# Altium footprint library Capacitors.PcbLib: 9 footprints
Each footprint in its own frame and in the unit in brackets; x right, y up, seen from the top. Pads: shape width x height; smd on the part's side, far side on the other; paste and mask are expansions set on the pad; w line width, h text height; cw(c..) or ccw(c..) is an arc to the next point about the centre after c.
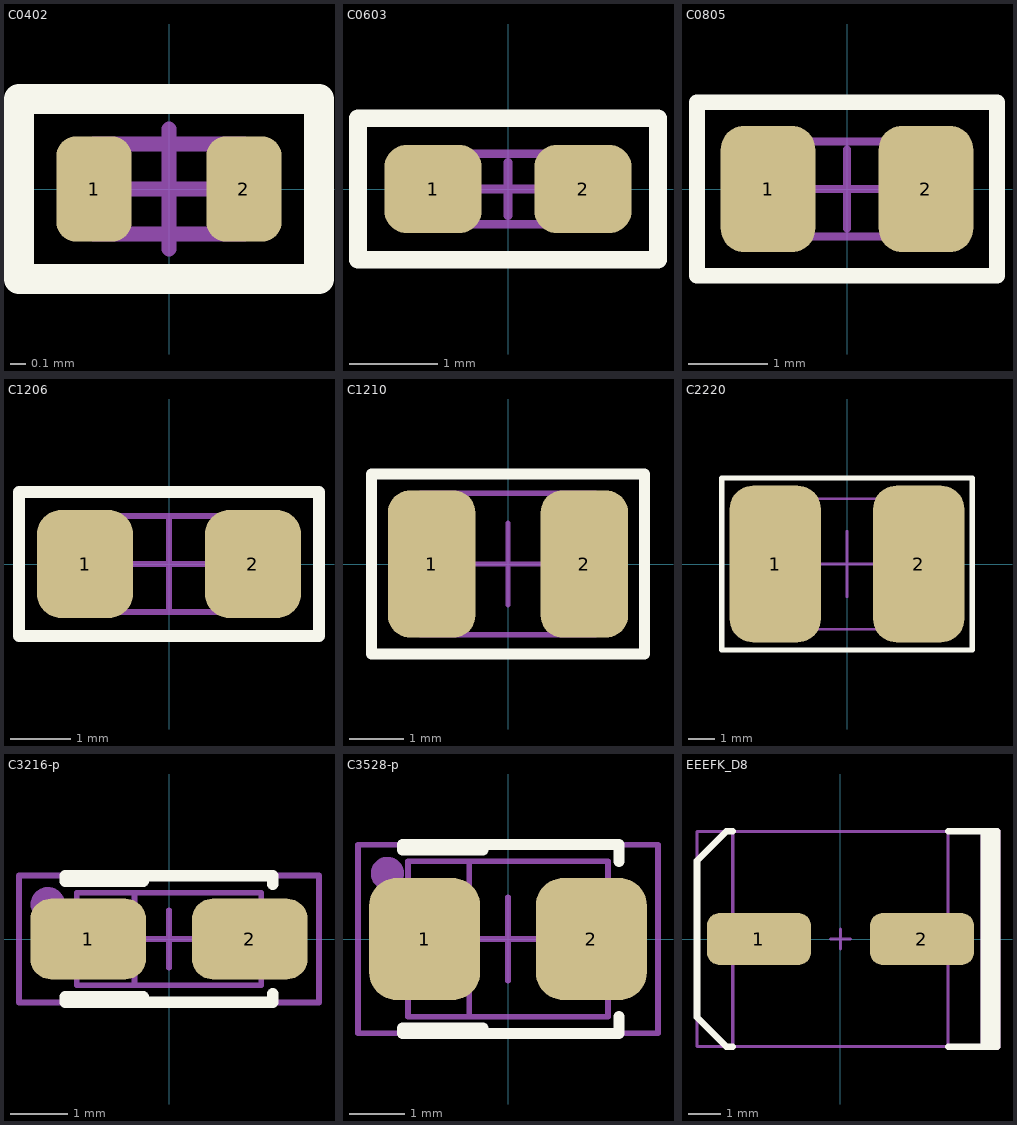
[diagram p0: the footprints below, top view; thin cyan lines are the x and y axes]

## C0402 [mm] "1005M"
height 0.4
pads (2):
  rrect50% 0.5x0.7 smd: 1(-0.5,0) 2(0.5,0)
Top Overlay:
  lines w0.2: -1,-0.6 1,-0.6 1,0.6 -1,0.6 -1,-0.6
Mechanical 7:
  lines w0.05: -1,-0.6 1,-0.6 1,0.6 -1,0.6 -1,-0.6
  text ".Designator" at -0.75,-0.25 h0.7
Mechanical 13:
  lines w0.1: -0.5,-0.3 0.5,-0.3 0.5,0.3 -0.5,0.3 -0.5,-0.3
Mechanical 15:
  lines w0.1: -0.4,0 0.4,0 ; 0,-0.4 0,0.4 ; -1,-0.6 -1,0.6 1,0.6 1,-0.6 -1,-0.6
3D body "User Library-CAPC1005X06.step": height 0.61, standoff 0.01, extent -0.5,-0.25 0.5,0.25

## C0603 [mm] "1608M"
height 0.6
pads (2):
  rrect50% 1.1x1 smd: 1(-0.85,0) 2(0.85,0)
Top Overlay:
  lines w0.2: -1.7,-0.8 -1.7,0.8 1.7,0.8 1.7,-0.8 -1.7,-0.8
Mechanical 7:
  lines w0.05: -1.7,-0.8 -1.7,0.8 1.7,0.8 1.7,-0.8 -1.7,-0.8
  text ".Designator" at -1.1,-0.3 h1
Mechanical 13:
  lines w0.1: -0.8,-0.4 0.8,-0.4 0.8,0.4 -0.8,0.4 -0.8,-0.4
Mechanical 15:
  lines w0.1: -0.3,0 0.3,0 ; 0,-0.3 0,0.3 ; -1.7,-0.8 -1.7,0.8 1.7,0.8 1.7,-0.8 -1.7,-0.8
3D body "User Library-CAPC1608X09.step": height 0.91, standoff 0.01, extent -0.8,-0.4 0.8,0.4

## C0805 [mm] "2012M"
height 1
pads (2):
  rrect50% 1.2x1.6 smd: 1(-1,0) 2(1,0)
Top Overlay:
  lines w0.2: -1.9,-1.1 1.9,-1.1 1.9,1.1 -1.9,1.1 -1.9,-1.1
Mechanical 7:
  lines w0.05: -1.9,-1.1 1.9,-1.1 1.9,1.1 -1.9,1.1 -1.9,-1.1
  text ".Designator" at -1.75,-0.25 h1.2
Mechanical 13:
  lines w0.1: -1,-0.6 -1,0.6 1,0.6 1,-0.6 -1,-0.6
Mechanical 15:
  lines w0.1: -0.5,0 0.5,0 ; 0,-0.5 0,0.5 ; -1.9,-1.1 -1.9,1.1 1.9,1.1 1.9,-1.1 -1.9,-1.1
3D body "User Library-CAPC2013X10.step": height 1.01, standoff 0.01, extent -1,-0.625 1,0.625

## C1206 [mm] "3216M"
height 1.6
pads (2):
  rrect50% 1.6x1.8 smd: 1(-1.4,0) 2(1.4,0)
Top Overlay:
  lines w0.2: -2.5,-1.2 2.5,-1.2 2.5,1.2 -2.5,1.2 -2.5,-1.2
Mechanical 7:
  lines w0.05: -2.5,-1.2 2.5,-1.2 2.5,1.2 -2.5,1.2 -2.5,-1.2
  text ".Designator" at -2.25,-0.5 h1.5
Mechanical 13:
  lines w0.1: -1.6,-0.8 1.6,-0.8 1.6,0.8 -1.6,0.8 -1.6,-0.8
Mechanical 15:
  lines w0.1: -0.75,0 0.75,0 ; 0,-0.75 0,0.75 ; -2.5,-1.2 -2.5,1.2 2.5,1.2 2.5,-1.2 -2.5,-1.2
3D body "User Library-CAPC3216X10.step": height 1.01, standoff 0.01, extent -1.6,-0.8 1.6,0.8

## C1210 [mm] "3225M"
height 1.8
pads (2):
  rrect50% 1.6x2.7 smd: 1(-1.4,0) 2(1.4,0)
Top Overlay:
  lines w0.2: -2.5,-1.65 2.5,-1.65 2.5,1.65 -2.5,1.65 -2.5,-1.65
Mechanical 7:
  lines w0.05: -2.5,-1.65 2.5,-1.65 2.5,1.65 -2.5,1.65 -2.5,-1.65
  text ".Designator" at -2.25,-0.5 h1.5
Mechanical 13:
  lines w0.1: -1.6,-1.3 -1.6,1.3 1.6,1.3 1.6,-1.3 -1.6,-1.3
Mechanical 15:
  lines w0.1: -0.75,0 0.75,0 ; 0,-0.75 0,0.75 ; -2.5,-1.65 2.5,-1.65 2.5,1.65 -2.5,1.65 -2.5,-1.65
3D body "User Library-CAPC3225X10.step": height 1.01, standoff 0.01, extent -1.6,-1.25 1.6,1.25

## C2220 [mm] "5750M"
height 2.2
pads (2):
  rrect50% 3.5x6 smd: 1(-2.75,0) 2(2.75,0)
Top Overlay:
  lines w0.2: -4.8,-3.3 -4.8,3.3 4.8,3.3 4.8,-3.3 -4.8,-3.3
Mechanical 7:
  lines w0.05: -4.8,-3.3 4.8,-3.3 4.8,3.3 -4.8,3.3 -4.8,-3.3
  text ".Designator" at -2.25,-0.5 h1.5
Mechanical 13:
  lines w0.1: -2.9,-2.5 -2.9,2.5 2.9,2.5 2.9,-2.5 -2.9,-2.5
Mechanical 15:
  lines w0.1: -1.25,0 1.25,0 ; 0,-1.25 0,1.25 ; -4.8,-3.3 -4.8,3.3 4.8,3.3 4.8,-3.3 -4.8,-3.3
3D body "User Library-CAPC5750X26.step": height 2.61, standoff 0.01, extent -2.85,-2.5 2.85,2.5

## C3216-p [mm] "Type A"
height 1.6
pads (2):
  rrect50% 2x1.4 smd: 1(-1.4,0) 2(1.4,0)
Top Overlay:
  lines w0.2: -0.45,-1 -1.8,-1 -1.8,-1.1 1.8,-1.1 1.8,-0.95 ; -0.45,1 -1.8,1 -1.8,1.1 1.8,1.1 1.8,0.95
Mechanical 7:
  lines w0.05: -2.6,-1.1 -2.6,1.1 2.6,1.1 2.6,-1.1 -2.6,-1.1
  lines w0.1: -2.1,0 -1.6,0 ; -1.85,-0.25 -1.85,0.25
  text ".Designator" at -0.6,-0.4 h1.5
Mechanical 13:
  lines w0.1: -0.6,-0.8 -0.6,0.8 ; -1.6,-0.8 -1.6,0.8 1.6,0.8 1.6,-0.8 -1.6,-0.8
Mechanical 15:
  circle w0.3: c-2.1,0.6 r0.15
  lines w0.1: -0.5,0 0.5,0 ; 0,-0.5 0,0.5 ; -2.6,-1.1 2.6,-1.1 2.6,1.1 -2.6,1.1 -2.6,-1.1
3D body "CASE_A.STEP": height 1.8, standoff 0, extent -1.6,-0.8 1.6,0.8

## C3528-p [mm] "Type B"
height 1.8
pads (2):
  rrect50% 2x2.2 smd: 1(-1.5,0) 2(1.5,0)
Top Overlay:
  lines w0.2: -0.45,-1.6 -1.9,-1.6 -1.9,-1.7 2,-1.7 2,-1.4 ; -0.45,1.6 -1.9,1.6 -1.9,1.7 2,1.7 2,1.4
Mechanical 7:
  lines w0.05: -2.7,-1.7 2.7,-1.7 2.7,1.7 -2.7,1.7 -2.7,-1.7
  lines w0.1: -2.05,0 -1.55,0 ; -1.8,-0.25 -1.8,0.25
  text ".Designator" at -0.4,-0.4 h1.5
Mechanical 13:
  lines w0.1: -0.7,-1.4 -0.7,1.4 ; -1.8,-1.4 1.8,-1.4 1.8,1.4 -1.8,1.4 -1.8,-1.4
Mechanical 15:
  circle w0.3: c-2.17,1.18 r0.15
  lines w0.1: -0.75,0 0.75,0 ; 0,-0.75 0,0.75 ; -2.7,-1.7 2.7,-1.7 2.7,1.7 -2.7,1.7 -2.7,-1.7
3D body "CASE_B.STEP": height 2.1, standoff 0, extent -1.75,-1.4 1.75,1.4

## EEEFK_D8 [mm]
pads (2):
  rrect50% 3.2x1.6 smd: 1(-2.5,0) 2(2.5,0)
Top Overlay:
  lines w0.2: -3.3,-3.3 -3.5,-3.3 -4.4,-2.4 -4.4,2.4 -3.5,3.3 -3.3,3.3 ; 3.3,-3.3 4.4,-3.3 ; 3.3,3.3 4.4,3.3 ; 4.4,-3.3 4.4,3.3 ; 4.4,-3.3 4.6,-3.3 ; 4.4,3.3 4.6,3.3 ; 4.6,-3.3 4.8,-3.3 4.8,3.3 4.6,3.3 ; 4.6,-3.3 4.6,3.3
Mechanical 7:
  lines w0.1: 4.4,-3.3 -4.4,-3.3 -4.4,3.3 4.4,3.3
  lines w0.2: 4.6,-3.3 4.6,3.3 4.4,3.3 ; 4.4,3.3 4.4,-3.3 4.8,-3.3 4.8,3.3 4.4,3.3
  text ".Designator" at 0,2 h1.5
Mechanical 13:
  lines w0.1: -3.3,-3.3 3.3,-3.3 3.3,3.3 -3.3,3.3 -3.3,-3.3
Mechanical 15:
  lines w0.1: -0.3,0 0.3,0 ; 0,-0.3 0,0 0,0.3 ; 4.4,-3.3 -4.4,-3.3 -4.4,3.3 4.4,3.3
  lines w0.2: 4.6,-3.3 4.6,3.3 ; 4.4,-3.3 4.4,3.3 4.8,3.3 4.8,-3.3 4.4,-3.3
3D body "SW3dPS-capacitor size D8.STEP": height 7.71, standoff -0.01, extent -3.5,-3.3 3.5,3.3